# Altium schematic symbol library VLS4020CX-1R5M-H.SchLib: 1 symbol
Pins are listed as number, name and electrical type; pins without a type are passive.

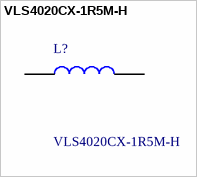
[diagram p0: symbol VLS4020CX-1R5M-H]

## VLS4020CX-1R5M-H
designator L?
Power Inductors - SMD 1.5uH 20% 0.06ohm 3.40A AEC-Q200; Manufacturer_Name: TDK; Geometry.Height: 2mm; Manufacturer_Part_Number: VLS4020CX-1R5M-H; Mouser Part Number: 810-VLS4020CX-1R5M-H; Mouser Price/Stock: https://www.mouser.co.uk/ProductDetail/TDK/VLS4020CX-1R5M-H?qs=vvQtp7zwQdMoi9tHBOeuEA%3D%3D; Arrow Part Number: *; Arrow Price/Stock: *; Datasheet Link: https://product.tdk.com/system/files/dam/doc/product/inductor/inductor/smd/catalog/inductor_automotive_power_vls4020cx-h_en.pdf
footprint VLS4020CX1R5MH
pins: 1, 2